# Altium integrated library RES_2W.IntLib: 1 symbol
Pins are listed as number, name and electrical type; pins without a type are passive.

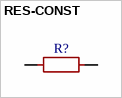
[diagram p0: symbol RES-CONST]

## RES-CONST
designator R?
footprint RES-2W
pins: 1, 2